# Altium footprint library IND_WE-SCC.PcbLib: 1 footprints
Each footprint in its own frame and in the unit in brackets; x right, y up, seen from the top. Pads: shape width x height; smd on the part's side, far side on the other; paste and mask are expansions set on the pad; w line width, h text height; cw(c..) or ccw(c..) is an arc to the next point about the centre after c.
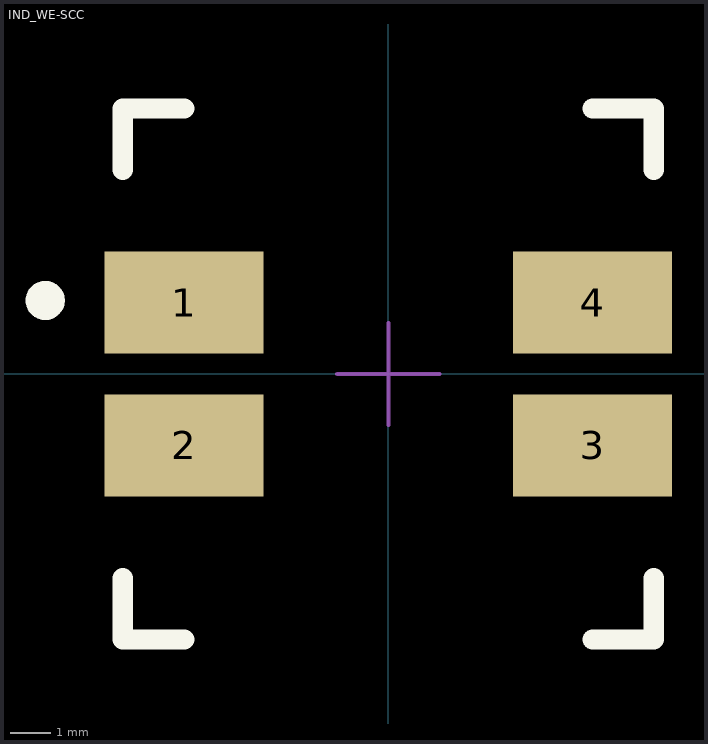
[diagram p0: the footprint, top view; thin cyan lines are the x and y axes]

## IND_WE-SCC [mm] "CM Filter, Würth Elektronik WE-SCC, Body 12.5x12.5 mm"
height 10.5
pads (4):
  rect 3.9x2.5 smd paste+0: 1(-5,1.75) 2(-5,-1.75) 3(5,-1.75) 4(5,1.75)
Top Overlay:
  circle w0.5: c-8.4,1.8 r0.23
  lines w0.5: -6.5,-5 -6.5,-6.5 -5,-6.5 ; -6.5,5 -6.5,6.5 -5,6.5 ; 5,-6.5 6.5,-6.5 6.5,-5 ; 5,6.5 6.5,6.5 6.5,5
Mechanical 15:
  lines w0.1: -1.25,0 1.25,0 ; 0,-1.25 0,1.25
3D body "STEP-WE-SCC-1210-rev1.stp": height 10.51, standoff 0.01, extent -6.25,-6.25 6.25,6.25